# EAGLE library part PICOBLADE6 (library ZMPLC)
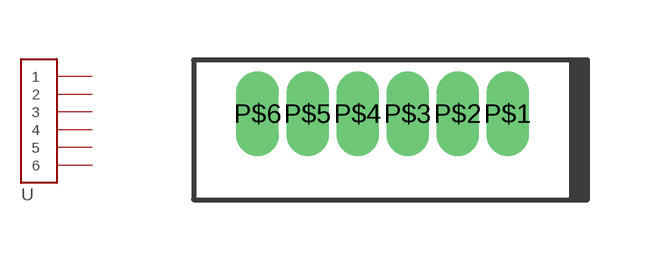
[diagram p14: symbol with the pads of PICOBLADE6; footprint PICOBLADE6]

Designator prefix -

## PICOBLADE6  [PICOBLADE6]
P$1  1
P$2  2
P$3  3
P$4  4
P$5  5
P$6  6

## Footprint PICOBLADE6 (pad centres in mm)
drill 0.55 long: P$1 0,0; P$2 -1.25,0; P$3 -2.5,0; P$4 -3.75,0; P$5 -5,0; P$6 -6.25,0